# Altium schematic symbol library TMR 6-7211WIR.SchLib: 1 symbol
Pins are listed as number, name and electrical type; pins without a type are passive.

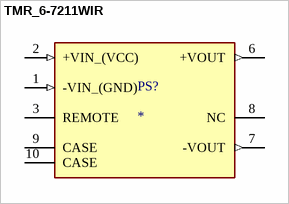
[diagram p0: symbol TMR_6-7211WIR]

## TMR_6-7211WIR
designator PS?
TMR 3WIR Series, 3 Watt.; MP: TMR_6-7211WIR; MF: {'manufacturer': u'Traco Power'}; Price: None; Availability: Unavailable; Value: *; Package: None
footprint CONV_TMR_6-7211WIR
pins: 1 -VIN_(GND) (in), 2 +VIN_(VCC) (in), 3 REMOTE, 6 +VOUT (out), 7 -VOUT (out), 8 NC, 9 CASE, 10 CASE